# Altium schematic symbol library Schlib1.SchLib: 16 symbols
Pins are listed as number, name and electrical type; pins without a type are passive.

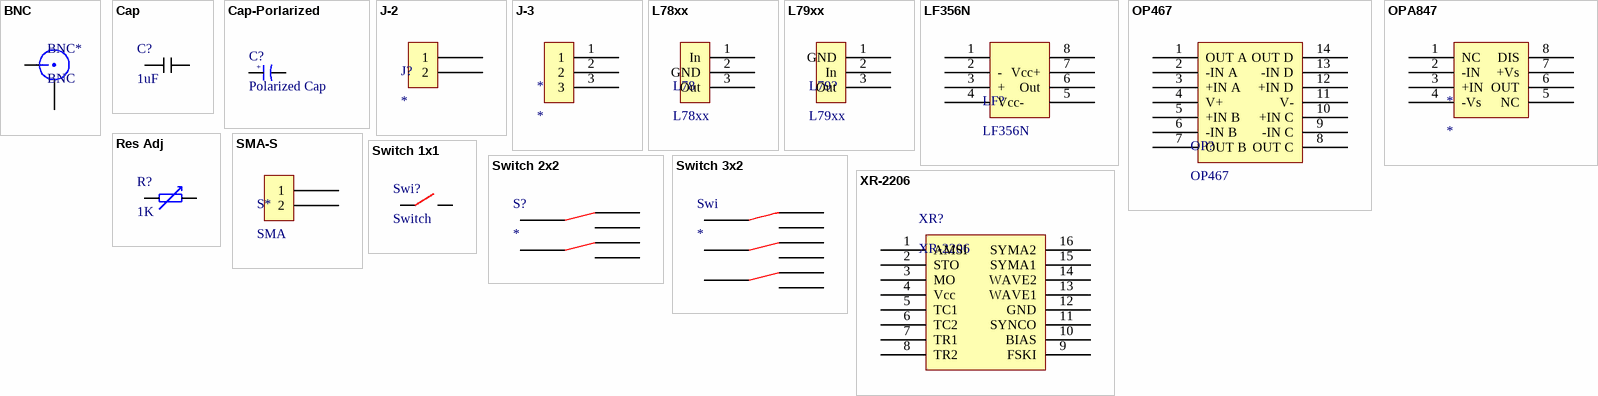
[diagram p0: symbols BNC to XR-2206]

## BNC
designator BNC*
footprint BNC-KE
pins: 1, 2

## Cap
designator C?, comment 1uF
footprint Capacitor
pins: 1, 2

## Cap-Porlarized
designator C?, comment Polarized Cap
footprint Capacitor
pins: 1 -, 2 +

## J-2
designator J?
footprint J2 (J1-3)
pins: 1, 2

## J-3
designator *
footprint J3 (+-G)
pins: 1, 2, 3

## L78xx
designator L78
footprint TOP220
pins: 1 In, 2 GND, 3 Out

## L79xx
designator L79?
footprint TOP220
pins: 1 GND, 2 In, 3 Out

## LF356N
designator LF?
footprint DIP8
pins: 1 Offset Null, 2 -, 3 +, 4 Vcc-, 5 Offset Null2, 6 Out, 7 Vcc+, 8 N.C.

## OP467
designator OP?
footprint DIP14
pins: 1 OUT A, 2 -IN A, 3 +IN A, 4 V+, 5 +IN B, 6 -IN B, 7 OUT B, 8 OUT C, 9 -IN C, 10 +IN C, 11 V-, 12 +IN D, 13 -IN D, 14 OUT D

## OPA847
designator *
footprint DIP8
pins: 1 NC, 2 -IN, 3 +IN, 4 -Vs, 5 NC, 6 OUT, 7 +Vs, 8 DIS

## Res Adj
designator R?, comment 1K
footprint J3 (+-G)
pins: 1, 2

## SMA-S
designator S*, comment SMA
footprint SMA-S
footprint SMA-L
pins: 1, 2

## Switch 1x1
designator Swi?, comment Switch
footprint J2 (J1-3)
pins: 1, 2

## Switch 2x2
designator S?
footprint Swi 2x2
pins: 1, 2, 3, 4, 5, 6

## Switch 3x2
designator Swi
footprint Swi 3x2
pins: 1, 2, 3, 4, 5, 6, 7, 8, 9

## XR-2206
designator XR?
footprint DIP16
pins: 1 AMSI, 2 STO, 3 MO, 4 Vcc, 5 TC1, 6 TC2, 7 TR1, 8 TR2, 9 FSKI, 10 BIAS, 11 SYNCO, 12 GND, 13 WAVE1, 14 WAVE2, 15 SYMA1, 16 SYMA2